# EAGLE library part ESP-WROOM-02 (library Module)
ESP-WROOM-02 Module
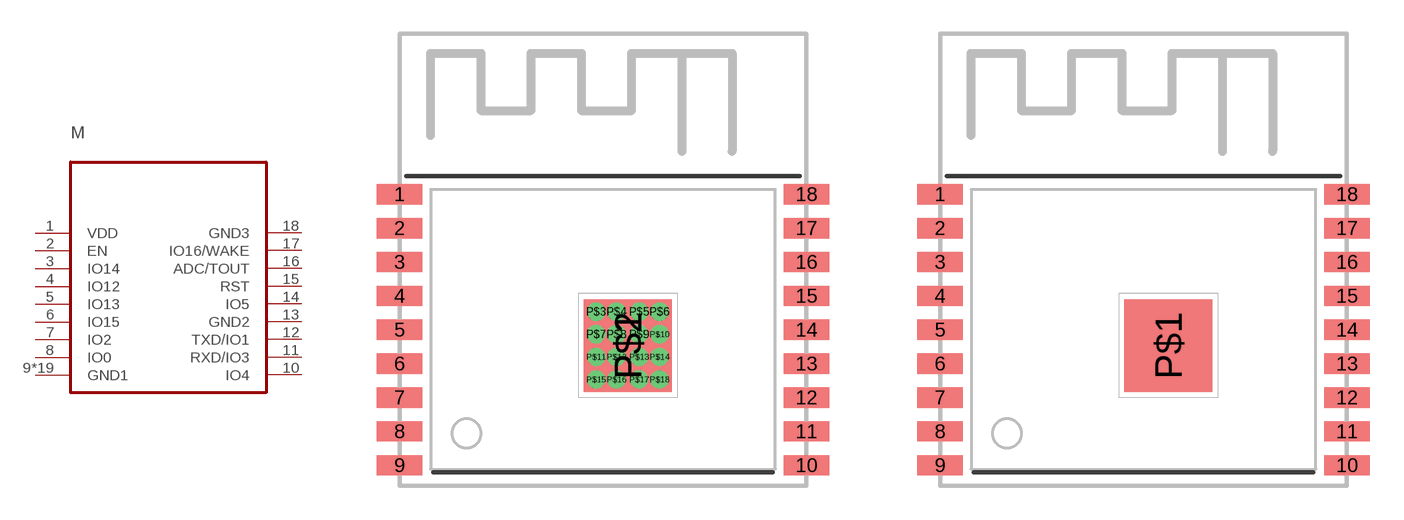
[diagram p7: symbol with the pads of ESP-WROOM-02; footprints ESP-WROOM-02, ESP-WROOM-02-NO-THERMAL]

Designator prefix M

## ESP-WROOM-02_(NORMAL) (CYTRON-PC: WIF-ESP-WROOM02; DESC: ESP-WROOM-02 WiFi Module; MF: Espressif; MPN: ESP-WROOM-02)  [ESP-WROOM-02]
1  VDD  pwr
2  EN
3  IO14
4  IO12
5  IO13
6  IO15
7  IO2
8  IO0
9  GND1  pwr
10  IO4
11  RXD/IO3
12  TXD/IO1
13  GND2  pwr
14  IO5  oc
15  RST
16  ADC/TOUT
17  IO16/WAKE
18  GND3  pwr
P$1  GND1  pwr
P$2  GND1  pwr
P$3  GND1  pwr
P$4  GND1  pwr
P$5  GND1  pwr
P$6  GND1  pwr
P$7  GND1  pwr
P$8  GND1  pwr
P$9  GND1  pwr
P$10  GND1  pwr
P$11  GND1  pwr
P$12  GND1  pwr
P$13  GND1  pwr
P$14  GND1  pwr
P$15  GND1  pwr
P$16  GND1  pwr
P$17  GND1  pwr
P$18  GND1  pwr

## ESP-WROOM-02_(NO-THERMAL) (CYTRON-PC: WIF-ESP-WROOM02; DESC: ESP-WROOM-02 WiFi Module; MF: Espressif; MPN: ESP-WROOM-02)  [ESP-WROOM-02-NO-THERMAL]
1  VDD  pwr
2  EN
3  IO14
4  IO12
5  IO13
6  IO15
7  IO2
8  IO0
9  GND1  pwr
10  IO4
11  RXD/IO3
12  TXD/IO1
13  GND2  pwr
14  IO5  oc
15  RST
16  ADC/TOUT
17  IO16/WAKE
18  GND3  pwr
P$1  GND1  pwr

## Footprint ESP-WROOM-02 (pad centres in mm)
ESP-WROOM-02 Created by: Beng Chet Modified by: Wai Weng
smd 2 x 0.9: 1 -9,2.9; 2 -9,1.4; 3 -9,-0.1; 4 -9,-1.6; 5 -9,-3.1; 6 -9,-4.6; 7 -9,-6.1; 8 -9,-7.6; 9 -9,-9.1; 10 9,-9.1; 11 9,-7.6; 12 9,-6.1; 13 9,-4.6; 14 9,-3.1; 15 9,-1.6; 16 9,-0.1; 17 9,1.4; 18 9,2.9
smd 3.9 x 4.1: P$1 1.1,-3.8
smd 3.9 x 4.1 bottom: P$2 1.1,-3.8
drill 0.3: P$3 -0.3,-2.3; P$4 0.6,-2.3; P$5 1.6,-2.3; P$6 2.5,-2.3; P$7 -0.3,-3.3; P$8 0.6,-3.3; P$9 1.6,-3.3; P$10 2.5,-3.3; P$11 -0.3,-4.3; P$12 0.6,-4.3; P$13 1.6,-4.3; P$14 2.5,-4.3; P$15 -0.3,-5.3; P$16 0.6,-5.3; P$17 1.6,-5.3; P$18 2.5,-5.3

## Footprint ESP-WROOM-02-NO-THERMAL (pad centres in mm)
ESP-WROOM-02 (No Thermal Pad) Created by: Wai Weng
smd 2 x 0.9: 1 -9,2.9; 2 -9,1.4; 3 -9,-0.1; 4 -9,-1.6; 5 -9,-3.1; 6 -9,-4.6; 7 -9,-6.1; 8 -9,-7.6; 9 -9,-9.1; 10 9,-9.1; 11 9,-7.6; 12 9,-6.1; 13 9,-4.6; 14 9,-3.1; 15 9,-1.6; 16 9,-0.1; 17 9,1.4; 18 9,2.9
smd 3.9 x 4.1: P$1 1.1,-3.8